# Altium integrated library POTENTIOMETER-10K.IntLib: 1 symbol
Pins are listed as number, name and electrical type; pins without a type are passive.

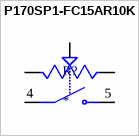
[diagram p0: symbol P170SP1-FC15AR10K]

## P170SP1-FC15AR10K
designator R?
10k Ohm 1 Gang Logarithmic Panel Mount Potentiometer Rotary, SPST 1.0 Kierros Conductive Plastic 0.05W, 1/20W PC Pins; MF: TT Electronics/BI; MP: P170SP1-FC15AR10K; Package: None; Price: None; Check_prices: https://www.snapeda.com/parts/P170SP1-FC15AR10K/TT+Electronics%252FBI/view-part/?ref=eda; Value: *; SnapEDA_Link: https://www.snapeda.com/parts/P170SP1-FC15AR10K/TT+Electronics%252FBI/view-part/?ref=snap; Availability: In Stock; Purchase-URL: https://pricing.snapeda.com/search/part/P170SP1-FC15AR10K/?ref=eda
footprint TRIM_P170SP1-FC15AR10K
pins: 1 CCW, 2 S, 3 CW, 4 OFF, 5 ON